# Altium schematic symbol library lpgbt.SchLib: 1 symbol
Pins are listed as number, name and electrical type; pins without a type are passive.

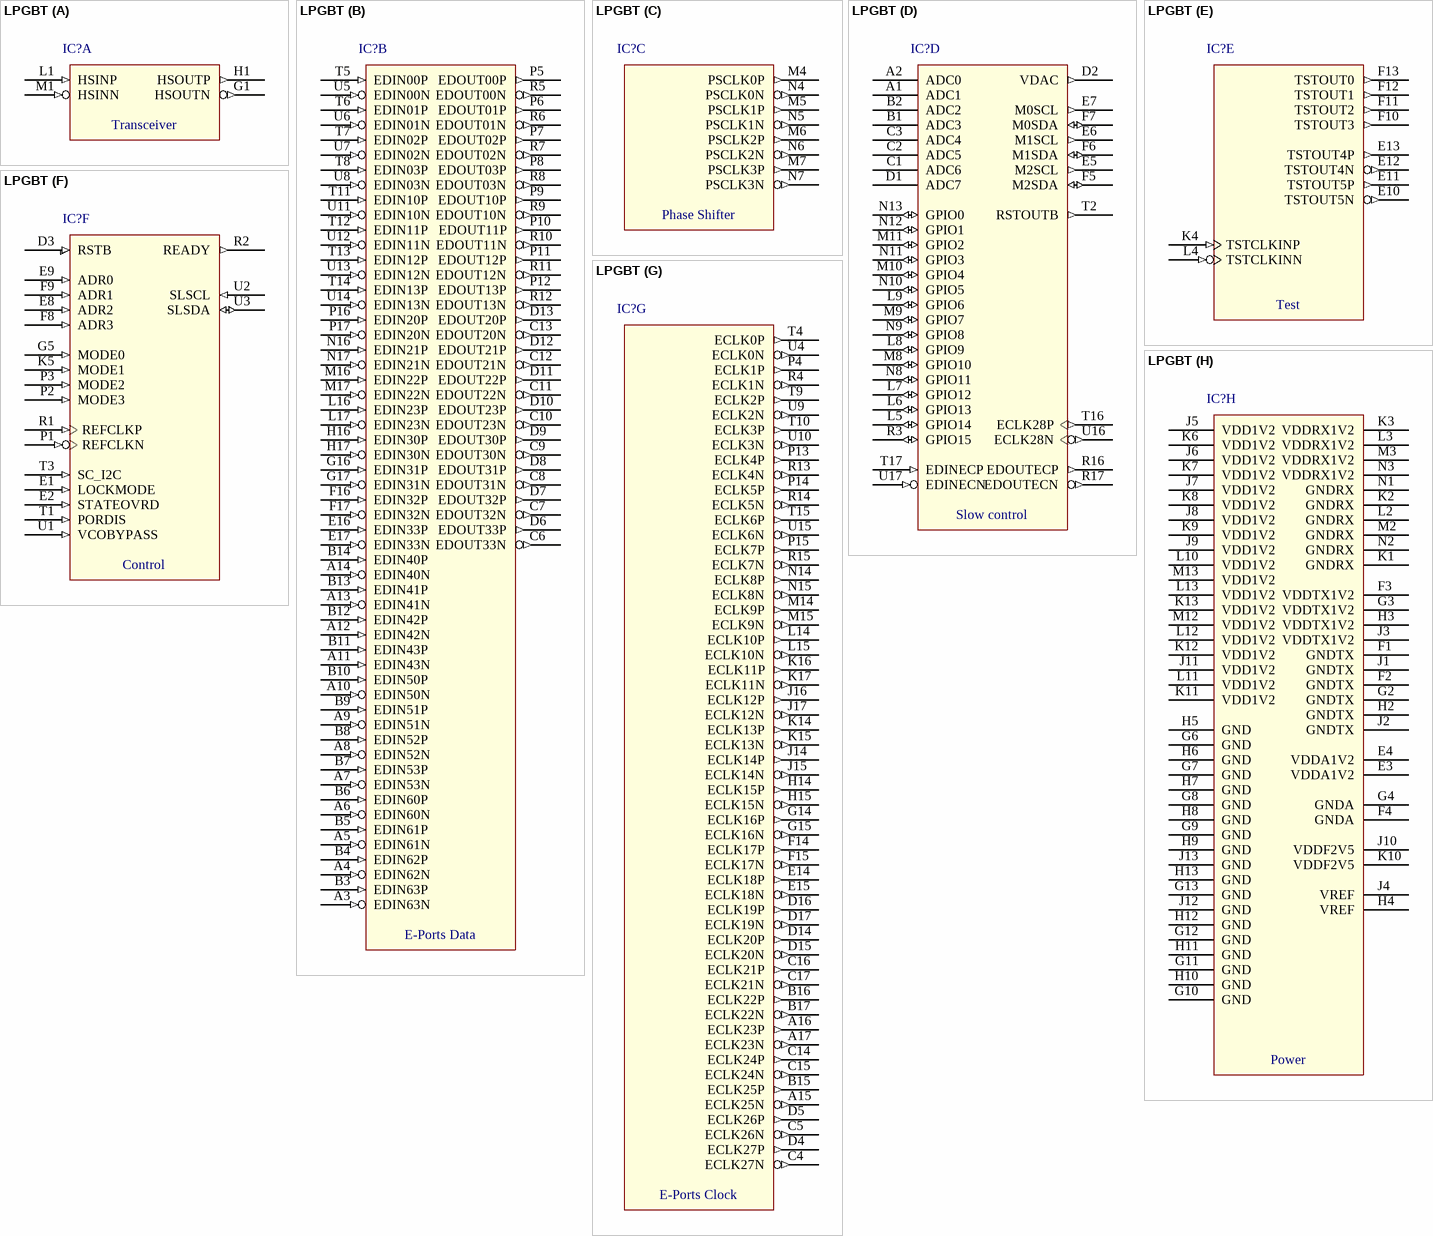
[diagram p0: symbol LPGBT]

## LPGBT
designator IC?  (value not drawn)
Low Power Gigabit Transceiver; Manufacturer: CERN; Pinout Version: 180226; Bonding: No; Device: LPGBT; Manufacturer Part Number: LPGBT; SMD: Yes; Mounted: Yes; LatestRevisionDate: 26.10.2018; PackageDescription: BGA, 289-Leads, Body 9.00x9.00mmx1.28mm, Pitch 0.50mm; Part Description: Low Power Gigabit Transceiver; Case: BGA289; Part Number: LPGBT; Pin Count: 289; Socket: No; Component Kind: Standard; Component Type: Standard; Footprint: BGA289C50P17X17_900X900X128
footprint BGA289C50P17X17_900X900X128 (BGA, 289-Leads, Body 9.00x9.00mmx1.28mm, Pitch 0.50mm)
part A pins: G1 HSOUTN (out) "Transceiver Output", H1 HSOUTP (out) "Transceiver Output", L1 HSINP (in) "Transceiver Input", M1 HSINN (in) "Transceiver Input"
part B pins: A3 EDIN63N (in), A4 EDIN62N (in), A5 EDIN61N (in), A6 EDIN60N (in), A7 EDIN53N (in), A8 EDIN52N (in), A9 EDIN51N (in), A10 EDIN50N (in), A11 EDIN43N (in), A12 EDIN42N (in), A13 EDIN41N (in), A14 EDIN40N (in), B3 EDIN63P (in), B4 EDIN62P (in), B5 EDIN61P (in), B6 EDIN60P (in), B7 EDIN53P (in), B8 EDIN52P (in), B9 EDIN51P (in), B10 EDIN50P (in), B11 EDIN43P (in), B12 EDIN42P (in), B13 EDIN41P (in), B14 EDIN40P (in), C6 EDOUT33N (out), C7 EDOUT32N (out), C8 EDOUT31N (out), C9 EDOUT30N (out), C10 EDOUT23N (out), C11 EDOUT22N (out), C12 EDOUT21N (out), C13 EDOUT20N (out), D6 EDOUT33P (out), D7 EDOUT32P (out), D8 EDOUT31P (out), D9 EDOUT30P (out), D10 EDOUT23P (out), D11 EDOUT22P (out), D12 EDOUT21P (out), D13 EDOUT20P (out), E16 EDIN33P (in), E17 EDIN33N (in), F16 EDIN32P (in), F17 EDIN32N (in), G16 EDIN31P (in), G17 EDIN31N (in), H16 EDIN30P (in), H17 EDIN30N (in), L16 EDIN23P (in), L17 EDIN23N (in), M16 EDIN22P (in), M17 EDIN22N (in), N16 EDIN21P (in), N17 EDIN21N (in), P5 EDOUT00P (out), P6 EDOUT01P (out), P7 EDOUT02P (out), P8 EDOUT03P (out), P9 EDOUT10P (out), P10 EDOUT11P (out), P11 EDOUT12P (out), P12 EDOUT13P (out), P16 EDIN20P (in), P17 EDIN20N (in), R5 EDOUT00N (out), R6 EDOUT01N (out), R7 EDOUT02N (out), R8 EDOUT03N (out), R9 EDOUT10N (out), R10 EDOUT11N (out), R11 EDOUT12N (out), R12 EDOUT13N (out), T5 EDIN00P (in), T6 EDIN01P (in), T7 EDIN02P (in), T8 EDIN03P (in), T11 EDIN10P (in), T12 EDIN11P (in), T13 EDIN12P (in), T14 EDIN13P (in), U5 EDIN00N (in), U6 EDIN01N (in), U7 EDIN02N (in), U8 EDIN03N (in), U11 EDIN10N (in), U12 EDIN11N (in), U13 EDIN12N (in), U14 EDIN13N (in)
part C pins: M4 PSCLK0P (out) "Phase shifter", M5 PSCLK1P (out) "Phase shifter", M6 PSCLK2P (out) "Phase shifter", M7 PSCLK3P (out) "Phase shifter", N4 PSCLK0N (out) "Phase shifter", N5 PSCLK1N (out) "Phase shifter", N6 PSCLK2N (out) "Phase shifter", N7 PSCLK3N (out) "Phase shifter"
part D pins: A1 ADC1 "ADC Input", A2 ADC0 "ADC Input", B1 ADC3 "ADC Input", B2 ADC2 "ADC Input", C1 ADC6 "ADC Input", C2 ADC5 "ADC Input", C3 ADC4 "ADC Input", D1 ADC7 "ADC Input", D2 VDAC (out) "DAC output", E5 M2SCL (out) "I2C Master", E6 M1SCL (out) "I2C Master", E7 M0SCL (out) "I2C Master", F5 M2SDA (io) "I2C Master", F6 M1SDA (io) "I2C Master", F7 M0SDA (io) "I2C Master", L5 GPIO14 (io), L6 GPIO13 (io), L7 GPIO12 (io), L8 GPIO9 (io), L9 GPIO6 (io), M8 GPIO10 (io), M9 GPIO7 (io), M10 GPIO4 (io), M11 GPIO2 (io), N8 GPIO11 (io), N9 GPIO8 (io), N10 GPIO5 (io), N11 GPIO3 (io), N12 GPIO1 (io), N13 GPIO0 (io), R3 GPIO15 (io), R16 EDOUTECP (out), R17 EDOUTECN (out), T2 RSTOUTB (out), T16 ECLK28P (out), T17 EDINECP (in), U16 ECLK28N (out), U17 EDINECN (in)
part E pins: E10 TSTOUT5N (out), E11 TSTOUT5P (out), E12 TSTOUT4N (out), E13 TSTOUT4P (out), F10 TSTOUT3 (out), F11 TSTOUT2 (out), F12 TSTOUT1 (out), F13 TSTOUT0 (out), K4 TSTCLKINP (in), L4 TSTCLKINN (in)
part F pins: D3 RSTB (in) "Reset", E1 LOCKMODE (in), E2 STATEOVRD (in), E8 ADR2 (in), E9 ADR0 (in), F8 ADR3 (in), F9 ADR1 (in), G5 MODE0 (in), K5 MODE1 (in), P1 REFCLKN (in), P2 MODE3 (in), P3 MODE2 (in), R1 REFCLKP (in), R2 READY (out), T1 PORDIS (in), T3 SC_I2C (in), U1 VCOBYPASS (in), U2 SLSCL (in) "I2C Slave", U3 SLSDA (io) "I2C Slave"
part G pins: A15 ECLK25N (out), A16 ECLK23P (out), A17 ECLK23N (out), B15 ECLK25P (out), B16 ECLK22P (out), B17 ECLK22N (out), C4 ECLK27N (out), C5 ECLK26N (out), C14 ECLK24P (out), C15 ECLK24N (out), C16 ECLK21P (out), C17 ECLK21N (out), D4 ECLK27P (out), D5 ECLK26P (out), D14 ECLK20P (out), D15 ECLK20N (out), D16 ECLK19P (out), D17 ECLK19N (out), E14 ECLK18P (out), E15 ECLK18N (out), F14 ECLK17P (out), F15 ECLK17N (out), G14 ECLK16P (out), G15 ECLK16N (out), H14 ECLK15P (out), H15 ECLK15N (out), J14 ECLK14P (out), J15 ECLK14N (out), J16 ECLK12P (out), J17 ECLK12N (out), K14 ECLK13P (out), K15 ECLK13N (out), K16 ECLK11P (out), K17 ECLK11N (out), L14 ECLK10P (out), L15 ECLK10N (out), M14 ECLK9P (out), M15 ECLK9N (out), N14 ECLK8P (out), N15 ECLK8N (out), P4 ECLK1P (out), P13 ECLK4P (out), P14 ECLK5P (out), P15 ECLK7P (out), R4 ECLK1N (out), R13 ECLK4N (out), R14 ECLK5N (out), R15 ECLK7N (out), T4 ECLK0P (out), T9 ECLK2P (out), T10 ECLK3P (out), T15 ECLK6P (out), U4 ECLK0N (out), U9 ECLK2N (out), U10 ECLK3N (out), U15 ECLK6N (out)
part H pins: E3 VDDA1V2 (power) "ADC supply", E4 VDDA1V2 (power) "ADC supply", F1 GNDTX (power) "Transmitter reference", F2 GNDTX (power) "Transmitter reference", F3 VDDTX1V2 (power) "Transmitter supply", F4 GNDA (power) "ADC reference", G2 GNDTX (power) "Transmitter reference", G3 VDDTX1V2 (power) "Transmitter supply", G4 GNDA (power) "ADC reference", G6 GND (power) "Core reference", G7 GND (power) "Core reference", G8 GND (power) "Core reference", G9 GND (power) "Core reference", G10 GND (power) "I/O reference", G11 GND (power) "I/O reference", G12 GND (power) "I/O reference", G13 GND (power) "I/O reference", H2 GNDTX (power) "Transmitter reference", H3 VDDTX1V2 (power) "Transmitter supply", H4 VREF (power) "ADC reference", H5 GND (power) "Core reference", H6 GND (power) "Core reference", H7 GND (power) "Core reference", H8 GND (power) "Core reference", H9 GND (power) "Core reference", H10 GND (power) "I/O reference", H11 GND (power) "I/O reference", H12 GND (power) "I/O reference", H13 GND (power) "I/O reference", J1 GNDTX (power) "Transmitter reference", J2 GNDTX (power) "Transmitter reference", J3 VDDTX1V2 (power) "Transmitter supply", J4 VREF (power) "ADC reference", J5 VDD1V2 (power) "Core supply", J6 VDD1V2 (power) "Core supply", J7 VDD1V2 (power) "Core supply", J8 VDD1V2 (power) "Core supply", J9 VDD1V2 (power) "Core supply", J10 VDDF2V5 (power) "Efuse supply", J11 VDD1V2 (power) "I/O supply", J12 GND (power) "I/O reference", J13 GND (power) "I/O reference", K1 GNDRX (power) "Receiver reference", K2 GNDRX (power) "Receiver reference", K3 VDDRX1V2 (power) "Receiver supply", K6 VDD1V2 (power) "Core supply", K7 VDD1V2 (power) "Core supply", K8 VDD1V2 (power) "Core supply", K9 VDD1V2 (power) "Core supply", K10 VDDF2V5 (power) "Efuse supply", K11 VDD1V2 (power) "I/O supply", K12 VDD1V2 (power) "I/O supply", K13 VDD1V2 (power) "I/O supply", L2 GNDRX (power) "Receiver reference", L3 VDDRX1V2 (power) "Receiver supply", L10 VDD1V2 (power) "I/O supply", L11 VDD1V2 (power) "I/O supply", L12 VDD1V2 (power) "I/O supply", L13 VDD1V2 (power) "I/O supply", M2 GNDRX (power) "Receiver reference", M3 VDDRX1V2 (power) "Receiver supply", M12 VDD1V2 (power) "I/O supply", M13 VDD1V2 (power) "I/O supply", N1 GNDRX (power) "Receiver reference", N2 GNDRX (power) "Receiver reference", N3 VDDRX1V2 (power) "Receiver supply"
part A text: Transceiver
part B text: E-Ports Data
part C text: Phase Shifter
part D text: Slow control
part E text: Test
part F text: Control
part G text: E-Ports Clock
part H text: Power